# Altium schematic symbol library LED-RGB-1010_3正.SchLib: 1 symbol
Pins are listed as number, name and electrical type; pins without a type are passive.

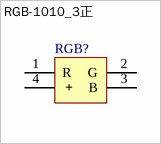
[diagram p0: symbol RGB-1010_3正]

## RGB-1010_3正
designator RGB?
pins: 1 R, 2 G, 3 B, 4 ＋